# Altium footprint library INDUCTOR.PCBLIB: 32 footprints (part 2 of 2)
Each footprint in its own frame and in the unit in brackets; x right, y up, seen from the top. Pads: shape width x height; smd on the part's side, far side on the other; paste and mask are expansions set on the pad; w line width, h text height; cw(c..) or ccw(c..) is an arc to the next point about the centre after c.
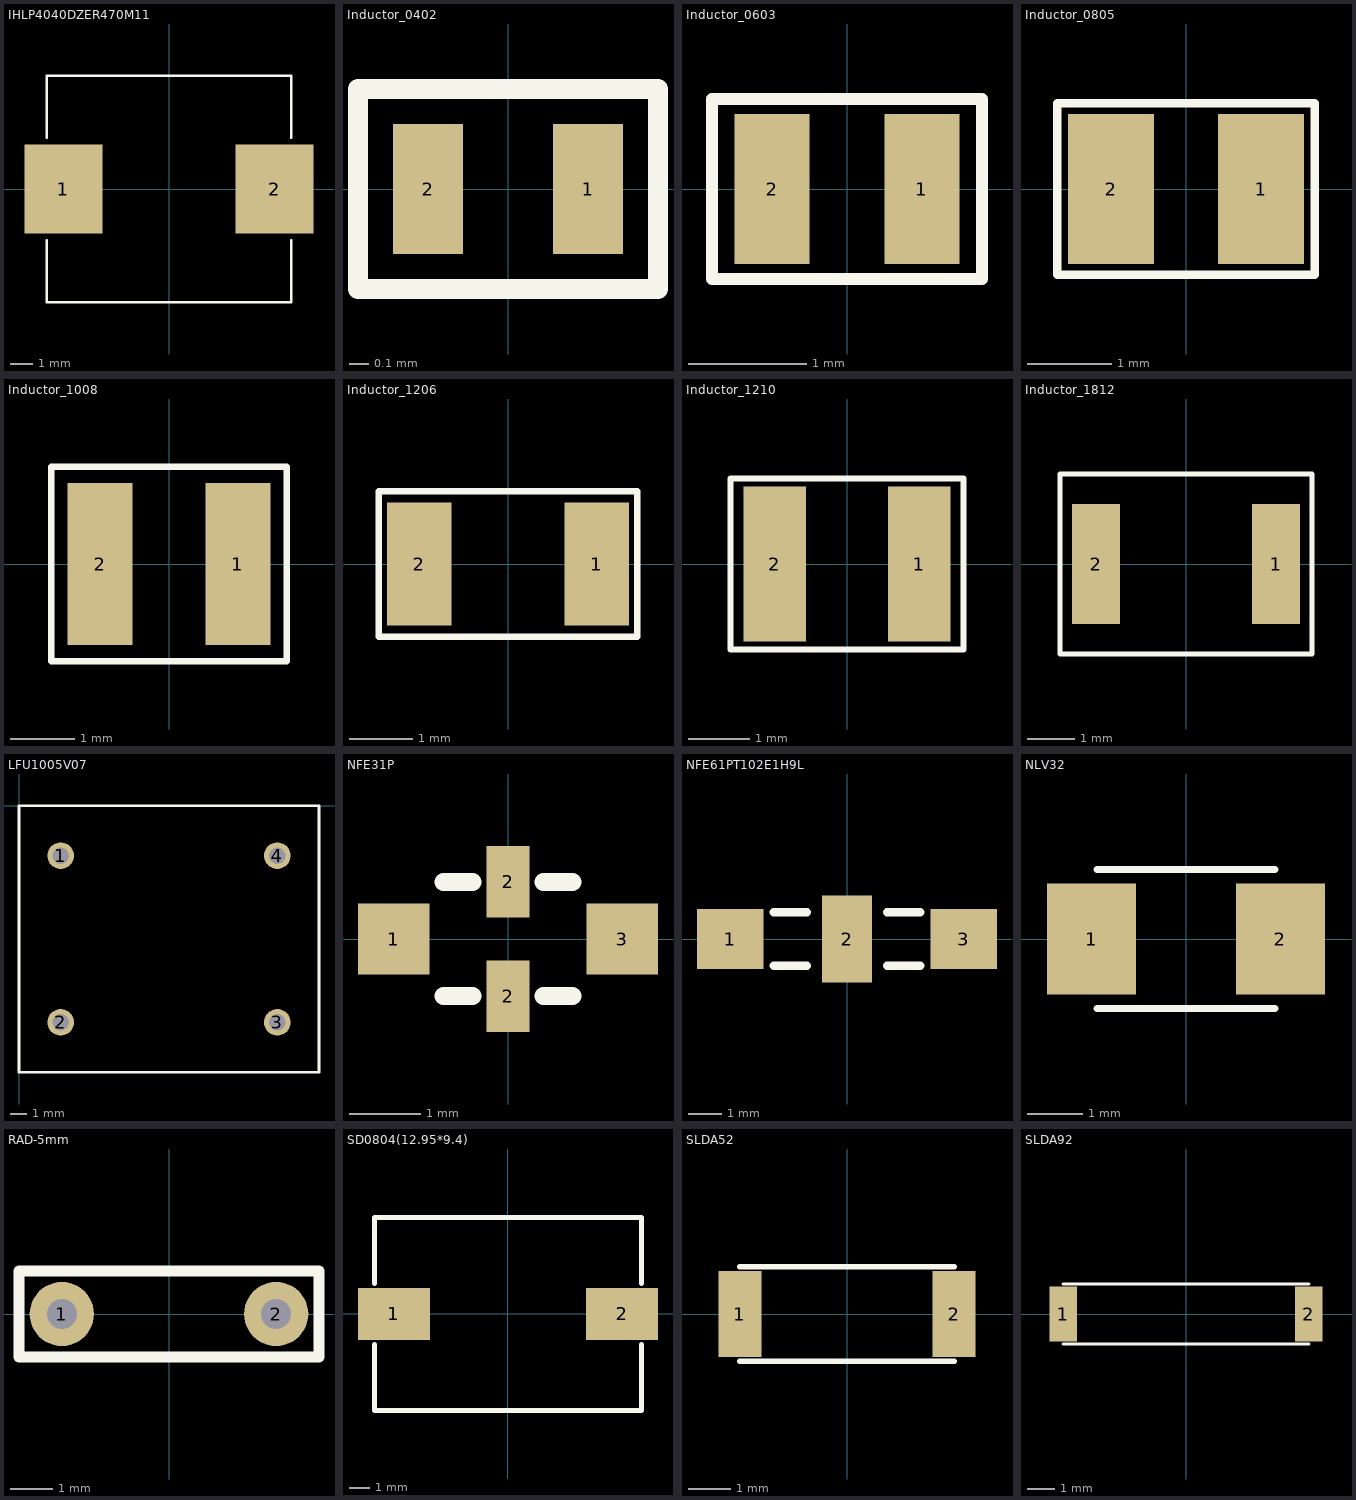
[diagram p1: the footprints below, top view; thin cyan lines are the x and y axes]

## IHLP4040DZER470M11 [mm]
height 4
pads (2):
  rect 3.5x4 smd: 1(-4.75,0) 2(4.75,0)
Top Overlay:
  lines w0.102: -5.5,-2.3 -5.5,-5.1 5.5,-5.1 5.5,-2.3 ; -5.5,2.3 -5.5,5.1 5.5,5.1 5.5,2.3

## Inductor_0402 [mil]
pads (2):
  rect 14x26 smd: 1(16,0) 2(-16,0)
Top Overlay:
  lines w4: -30,-20 -30,20 30,20 30,-20 -30,-20

## Inductor_0603 [mm]
pads (2):
  rect 0.635x1.27 smd: 1(0.635,0) 2(-0.635,0)
Top Overlay:
  lines w0.102: -1.143,-0.762 -1.143,0.762 1.143,0.762 1.143,-0.762 -1.143,-0.762

## Inductor_0805 [mil]
pads (2):
  rect 40x70 smd: 1(35,0) 2(-35,0)
Top Overlay:
  lines w4: -60,-40 -60,40 60,40 60,-40 -60,-40

## Inductor_1008 [mil]
pads (2):
  rect 40x100 smd: 1(42.5,0) 2(-42.5,0)
Top Overlay:
  lines w4: -72.5,-60 -72.5,60 72.5,60 72.5,-60 -72.5,-60

## Inductor_1206 [mil]
pads (2):
  rect 40x76 smd: 1(55,0) 2(-55,0)
Top Overlay:
  lines w4: -80,-45 80,-45 80,45 -80,45 -80,-45

## Inductor_1210 [mil]
pads (2):
  rect 40x100 smd: 1(46.5,0) 2(-46.5,0)
Top Overlay:
  lines w4: -75,-55 75,-55 75,55 -75,55 -75,-55

## Inductor_1812 [mil]
pads (2):
  rect 40x100 smd: 1(75,0) 2(-75,0)
Top Overlay:
  lines w4: -105,-75 -105,75 105,75 105,-75 -105,-75

## LFU1005V07 [mm] "COMMON MODE FILTER"
height 16
pads (4):
  round 1.6 hole 1: 1(2.5,-3) 2(2.5,-13) 3(15.5,-13) 4(15.5,-3)
Top Overlay:
  lines w0.152: 0,-16 18,-16 18,0 0,0 0,-16

## NFE31P [mm]
height 1.6
pads (4):
  rect 1x1 smd: 1(-1.6,0) 3(1.6,0)
  rect 0.6x1 smd: 2(0,-0.8) 2(0,0.8)
Top Overlay:
  lines w0.254: -0.9,-0.8 -0.5,-0.8 ; -0.9,0.8 -0.5,0.8 ; 0.5,-0.8 0.9,-0.8 ; 0.5,0.8 0.9,0.8

## NFE61PT102E1H9L [mm] "EMIFL LC combined"
height 1.6
pads (3):
  rect 2x1.8 smd: 1(-3.5,0) 3(3.5,0)
  rect 1.5x2.6 smd: 2(0,0)
Top Overlay:
  lines w0.254: -2.2,-0.8 -1.2,-0.8 ; -2.2,0.8 -1.2,0.8 ; 1.2,-0.8 2.2,-0.8 ; 1.2,0.8 2.2,0.8

## NLV32 [mm] "NLV32 Series TDK Inductor"
height 2.2
pads (2):
  rect 1.6x2 smd: 1(-1.7,0) 2(1.7,0)
Top Overlay:
  lines w0.127: -1.6,-1.25 1.6,-1.25 ; -1.6,1.25 1.6,1.25

## RAD-5mm [mm] "Inductor"
height 9
pads (2):
  round 1.5 hole 0.7: 1(-2.5,0) 2(2.5,0)
Top Overlay:
  lines w0.254: -3.5,-1 -3.5,1 3.5,1 3.5,-1 -3.5,-1

## SD0804(12.95*9.4) [mm] "For Zhenhuafu Inductor"
height 5.08
pads (2):
  rect 3.5x2.54 smd: 1(-5.55,0) 2(5.55,0)
Top Overlay:
  lines w0.254: -6.5,-1.5 -6.5,-4.7 6.5,-4.7 6.5,-1.5 ; -6.5,1.5 -6.5,4.7 6.5,4.7 6.5,1.5

## SLDA52 [mm] "FOR BLUETOOTH ANTENNA"
height 1
pads (2):
  rect 1x2 smd: 1(-2.5,0) 2(2.5,0)
Top Overlay:
  lines w0.127: -2.5,-1.1 2.5,-1.1 ; -2.5,1.1 2.5,1.1

## SLDA92 [mm] "For Bluetooth antenna"
height 1
pads (2):
  rect 1x2 smd: 1(-4.5,0) 2(4.5,0)
Top Overlay:
  lines w0.127: -4.5,-1.1 4.5,-1.1 ; -4.5,1.1 4.5,1.1